# Altium footprint library HGH.PcbLib: 336 footprints (part 3 of 21)
Each footprint in its own frame and in the unit in brackets; x right, y up, seen from the top. Pads: shape width x height; smd on the part's side, far side on the other; paste and mask are expansions set on the pad; w line width, h text height; cw(c..) or ccw(c..) is an arc to the next point about the centre after c.
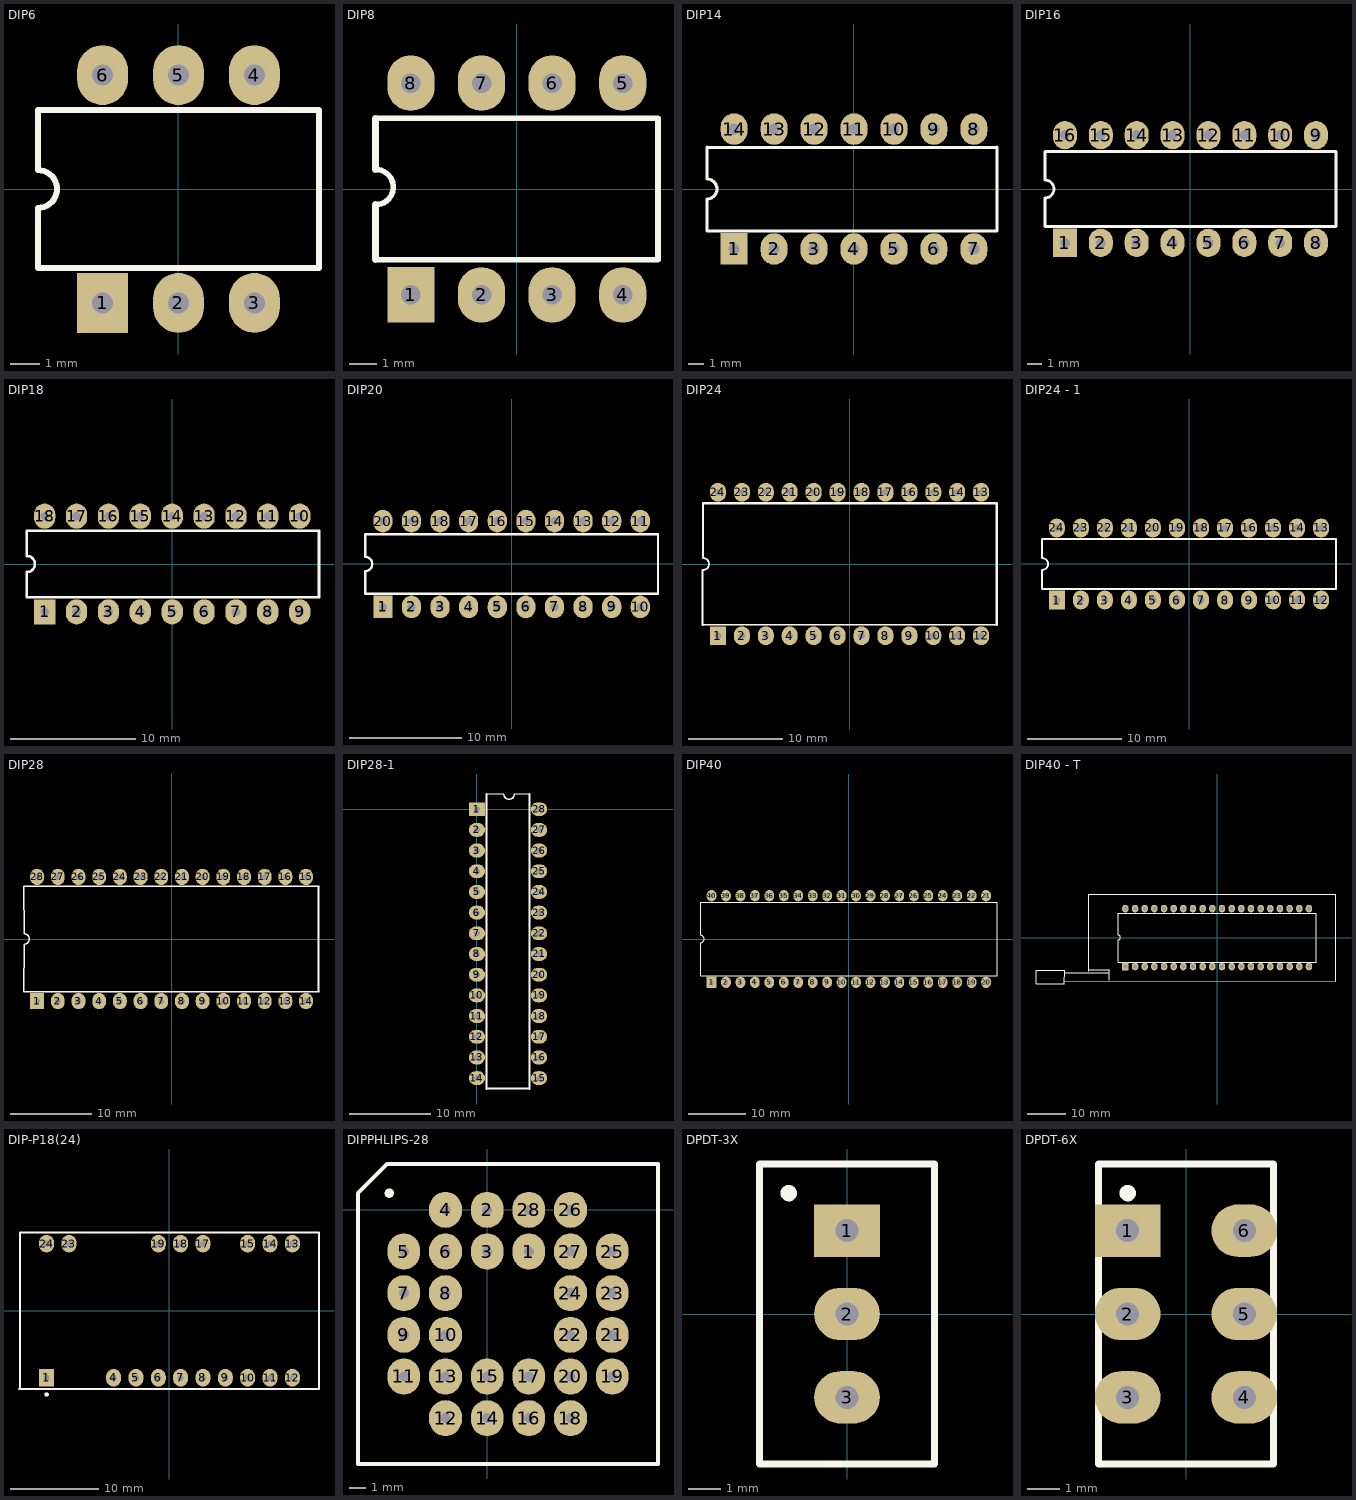
[diagram p2: the footprints below, top view; thin cyan lines are the x and y axes]

## DIP6 [mm]
pads (6):
  rect 1.7x2 hole 0.7: 1(-2.54,-3.81)
  oval 1.7x2 hole 0.7: 2(0,-3.81) 3(2.54,-3.81) 4(2.54,3.81) 5(0,3.81) 6(-2.54,3.81)
Top Overlay:
  lines w0.2: -4.7,-2.65 -4.7,-0.635 ccw(c-4.7,0) -4.7,0.635 -4.7,2.65 4.7,2.65 4.7,-2.65 -4.7,-2.65

## DIP8 [mm]
pads (8):
  rect 1.7x2 hole 0.7: 1(-3.81,-3.81)
  oval 1.7x2 hole 0.7: 2(-1.27,-3.81) 3(1.27,-3.81) 4(3.81,-3.81) 5(3.81,3.81) 6(1.27,3.81) 7(-1.27,3.81) 8(-3.81,3.81)
Top Overlay:
  lines w0.2: -5.08,-2.54 5.08,-2.54 5.08,2.54 -5.08,2.54 ; -5.08,-0.565 ccw(c-5.08,0.07) -5.08,0.705
  lines w0.254: -5.08,-2.54 -5.08,-0.565 ; -5.08,0.705 -5.08,2.54

## DIP14 [mm]
pads (14):
  rect 1.7x2 hole 0.7: 1(-7.62,-3.81)
  oval 1.7x2 hole 0.7: 2(-5.08,-3.81) 3(-2.54,-3.81) 4(0,-3.81) 5(2.54,-3.81) 6(5.08,-3.81) 7(7.62,-3.81) 8(7.62,3.81) 9(5.08,3.81) 10(2.54,3.81) 11(0,3.81) 12(-2.54,3.81) 13(-5.08,3.81) 14(-7.62,3.81)
Top Overlay:
  lines w0.2: -9.338,-2.65 -9.338,-0.635 ccw(c-9.338,0) -9.338,0.635 -9.338,2.65 ; -9.322,-2.667 9.084,-2.65 9.084,2.65 -9.322,2.642

## DIP16 [mm]
pads (16):
  rect 1.7x2 hole 0.7: 1(-8.89,-3.81)
  oval 1.7x2 hole 0.7: 2(-6.35,-3.81) 3(-3.81,-3.81) 4(-1.27,-3.81) 5(1.27,-3.81) 6(3.81,-3.81) 7(6.35,-3.81) 8(8.89,-3.81) 9(8.89,3.81) 10(6.35,3.81) 11(3.81,3.81) 12(1.27,3.81) 13(-1.27,3.81) 14(-3.81,3.81) 15(-6.35,3.81) 16(-8.89,3.81)
Top Overlay:
  lines w0.2: -10.3,-2.65 10.3,-2.65 10.3,2.65 -10.3,2.65 -10.3,0.635 cw(c-10.3,0) -10.3,-0.635 -10.3,-2.65

## DIP18 [mm]
pads (18):
  rect 1.7x2 hole 0.7: 1(-10.16,-3.81)
  oval 1.7x2 hole 0.7: 2(-7.62,-3.81) 3(-5.08,-3.81) 4(-2.54,-3.81) 5(0,-3.81) 6(2.54,-3.81) 7(5.08,-3.81) 8(7.62,-3.81) 9(10.16,-3.81) 10(10.16,3.81) 11(7.62,3.81) 12(5.08,3.81) 13(2.54,3.81) 14(0,3.81) 15(-2.54,3.81) 16(-5.08,3.81) 17(-7.62,3.81) 18(-10.16,3.81)
Top Overlay:
  lines w0.2: -11.57,-2.65 -11.57,-0.635 ccw(c-11.57,0) -11.57,0.635 -11.57,2.65 11.697,2.65 11.697,-2.65 -11.57,-2.65

## DIP20 [mm]
pads (20):
  rect 1.7x2 hole 0.7: 1(-11.43,-3.81)
  oval 1.7x2 hole 0.7: 2(-8.89,-3.81) 3(-6.35,-3.81) 4(-3.81,-3.81) 5(-1.27,-3.81) 6(1.27,-3.81) 7(3.81,-3.81) 8(6.35,-3.81) 9(8.89,-3.81) 10(11.43,-3.81) 11(11.43,3.81) 12(8.89,3.81) 13(6.35,3.81) 14(3.81,3.81) 15(1.27,3.81) 16(-1.27,3.81) 17(-3.81,3.81) 18(-6.35,3.81) 19(-8.89,3.81) 20(-11.43,3.81)
Top Overlay:
  lines w0.2: -13,-2.65 -13,-0.635 ccw(c-13,0) -13,0.635 -13,2.65 13,2.65 13,-2.65 -13,-2.65

## DIP24 [mm]
pads (24):
  rect 1.7x2 hole 0.7: 1(-13.97,-7.62)
  oval 1.7x2 hole 0.7: 2(-11.43,-7.62) 3(-8.89,-7.62) 4(-6.35,-7.62) 5(-3.81,-7.62) 6(-1.27,-7.62) 7(1.27,-7.62) 8(3.81,-7.62) 9(6.35,-7.62) 10(8.89,-7.62) 11(11.43,-7.62) 12(13.97,-7.62) 13(13.97,7.62) 14(11.43,7.62) 15(8.89,7.62) 16(6.35,7.62) 17(3.81,7.62) 18(1.27,7.62) 19(-1.27,7.62) 20(-3.81,7.62) 21(-6.35,7.62) 22(-8.89,7.62) 23(-11.43,7.62) 24(-13.97,7.62)
Top Overlay:
  lines w0.2: -15.621,-6.477 -15.621,-0.635 ; -15.56,-6.46 15.621,-6.452 ; -15.56,-0.635 ccw(c-15.56,0) -15.56,0.635
  lines w0.254: -15.56,0.635 -15.56,6.46 15.655,6.46 15.621,6.426 15.621,-6.452

## DIP24 - 1 [mm]
pads (24):
  rect 1.7x2 hole 0.7: 1(-13.97,-3.81)
  oval 1.7x2 hole 0.7: 2(-11.43,-3.81) 3(-8.89,-3.81) 4(-6.35,-3.81) 5(-3.81,-3.81) 6(-1.27,-3.81) 7(1.27,-3.81) 8(3.81,-3.81) 9(6.35,-3.81) 10(8.89,-3.81) 11(11.43,-3.81) 12(13.97,-3.81) 13(13.97,3.81) 14(11.43,3.81) 15(8.89,3.81) 16(6.35,3.81) 17(3.81,3.81) 18(1.27,3.81) 19(-1.27,3.81) 20(-3.81,3.81) 21(-6.35,3.81) 22(-8.89,3.81) 23(-11.43,3.81) 24(-13.97,3.81)
Top Overlay:
  lines w0.2: -15.54,-2.65 -15.54,-0.635 ccw(c-15.54,0) -15.54,0.635 -15.54,2.65 15.54,2.65 15.54,-2.65 -15.54,-2.65

## DIP28 [mm]
pads (28):
  rect 1.7x2 hole 0.7: 1(-16.51,-7.62)
  oval 1.7x2 hole 0.7: 2(-13.97,-7.62) 3(-11.43,-7.62) 4(-8.89,-7.62) 5(-6.35,-7.62) 6(-3.81,-7.62) 7(-1.27,-7.62) 8(1.27,-7.62) 9(3.81,-7.62) 10(6.35,-7.62) 11(8.89,-7.62) 12(11.43,-7.62) 13(13.97,-7.62) 14(16.51,-7.62) 15(16.51,7.62) 16(13.97,7.62) 17(11.43,7.62) 18(8.89,7.62) 19(6.35,7.62) 20(3.81,7.62) 21(1.27,7.62) 22(-1.27,7.62) 23(-3.81,7.62) 24(-6.35,7.62) 25(-8.89,7.62) 26(-11.43,7.62) 27(-13.97,7.62) 28(-16.51,7.62)
Top Overlay:
  lines w0.2: -18.161,-6.477 -18.1,-0.635 ccw(c-18.1,0) -18.1,0.635 -18.161,6.477 ; -18.1,-6.46 18.1,-6.46 ; -18.1,6.46 18.1,6.46 ; 18.034,-6.35 18.034,6.35

## DIP28-1 [mm]
pads (28):
  rect 2x1.7 hole 0.7: 1(0,0)
  oval 2x1.7 hole 0.7: 2(0,-2.54) 3(0,-5.08) 4(0,-7.62) 5(0,-10.16) 6(0,-12.7) 7(0,-15.24) 8(0,-17.78) 9(0,-20.32) 10(0,-22.86) 11(0,-25.4) 12(0,-27.94) 13(0,-30.48) 14(0,-33.02) 15(7.62,-33.02) 16(7.62,-30.48) 17(7.62,-27.94) 18(7.62,-25.4) 19(7.62,-22.86) 20(7.62,-20.32) 21(7.62,-17.78) 22(7.62,-15.24) 23(7.62,-12.7) 24(7.62,-10.16) 25(7.62,-7.62) 26(7.62,-5.08) 27(7.62,-2.54) 28(7.62,0)
Top Overlay:
  lines w0.2: 1.168,-34.356 1.168,1.844 ; 1.168,-34.29 6.452,-34.29 ; 1.168,1.905 3.302,1.844 ccw(c3.937,1.844) 4.572,1.844 6.452,1.905 ; 6.452,-34.356 6.452,1.844

## DIP40 [mm]
pads (40):
  rect 1.7x2 hole 0.7: 1(-24.13,-7.62)
  oval 1.7x2 hole 0.7: 2(-21.59,-7.62) 3(-19.05,-7.62) 4(-16.51,-7.62) 5(-13.97,-7.62) 6(-11.43,-7.62) 7(-8.89,-7.62) 8(-6.35,-7.62) 9(-3.81,-7.62) 10(-1.27,-7.62) 11(1.27,-7.62) 12(3.81,-7.62) 13(6.35,-7.62) 14(8.89,-7.62) 15(11.43,-7.62) 16(13.97,-7.62) 17(16.51,-7.62) 18(19.05,-7.62) 19(21.59,-7.62) 20(24.13,-7.62) 21(24.13,7.62) 22(21.59,7.62) 23(19.05,7.62) 24(16.51,7.62) 25(13.97,7.62) 26(11.43,7.62) 27(8.89,7.62) 28(6.35,7.62) 29(3.81,7.62) 30(1.27,7.62) 31(-1.27,7.62) 32(-3.81,7.62) 33(-6.35,7.62) 34(-8.89,7.62) 35(-11.43,7.62) 36(-13.97,7.62) 37(-16.51,7.62) 38(-19.05,7.62) 39(-21.59,7.62) 40(-24.13,7.62)
Top Overlay:
  lines w0.2: -26.05,-6.45 26.05,-6.45 26.05,6.45 -26.05,6.45 -26.05,0.635 cw(c-26.05,0) -26.05,-0.635 -26.05,-6.45

## DIP40 - T [mm]
pads (40):
  rect 1.7x2 hole 1: 1(-24.13,-7.62)
  oval 1.7x2 hole 1: 2(-21.59,-7.62) 3(-19.05,-7.62) 4(-16.51,-7.62) 5(-13.97,-7.62) 6(-11.43,-7.62) 7(-8.89,-7.62) 8(-6.35,-7.62) 9(-3.81,-7.62) 10(-1.27,-7.62) 11(1.27,-7.62) 12(3.81,-7.62) 13(6.35,-7.62) 14(8.89,-7.62) 15(11.43,-7.62) 16(13.97,-7.62) 17(16.51,-7.62) 18(19.05,-7.62) 19(21.59,-7.62) 20(24.13,-7.62) 21(24.13,7.62) 22(21.59,7.62) 23(19.05,7.62) 24(16.51,7.62) 25(13.97,7.62) 26(11.43,7.62) 27(8.89,7.62) 28(6.35,7.62) 29(3.81,7.62) 30(1.27,7.62) 31(-1.27,7.62) 32(-3.81,7.62) 33(-6.35,7.62) 34(-8.89,7.62) 35(-11.43,7.62) 36(-13.97,7.62) 37(-16.51,7.62) 38(-19.05,7.62) 39(-21.59,7.62) 40(-24.13,7.62)
Top Overlay:
  lines w0.2: -26.05,-6.45 26.05,-6.45 26.05,6.45 -26.05,6.45 -26.05,0.635 cw(c-26.05,0) -26.05,-0.635 -26.05,-6.45
  lines w0.254: -40.259,-11.303 31.242,-11.43 31.242,11.43 -33.782,11.43 -33.782,-8.89 ; -40.259,-9.271 -28.448,-9.271 ; -33.782,-8.509 -28.448,-8.509 -28.321,-8.636 -28.321,-11.176 ; -47.625,-12.192 -40.259,-12.192 -40.132,-8.636 -47.625,-8.636 -47.625,-12.192

## DIP-P18(24) [mm]
pads (18):
  rect 1.7x2 hole 0.7: 1(-13.97,-7.62)
  oval 1.7x2 hole 0.7: 4(-6.35,-7.62) 5(-3.81,-7.62) 6(-1.27,-7.62) 7(1.27,-7.62) 8(3.81,-7.62) 9(6.35,-7.62) 10(8.89,-7.62) 11(11.43,-7.62) 12(13.97,-7.62) 13(13.97,7.62) 14(11.43,7.62) 15(8.89,7.62) 17(3.81,7.62) 18(1.27,7.62) 19(-1.27,7.62) 23(-11.43,7.62) 24(-13.97,7.62)
Top Overlay:
  circle w0.25: c-13.968,-9.525 r0.125
  lines w0.25: -17.109,-8.89 16.891,-8.89 ; -17,-8.9 -17,-0.635 -17,8.9 17,8.9 17,-8.9

## DIPPHLIPS-28 [mm]
pads (28):
  oval 2x2.2 hole 0.6: 1(2.54,-2.54) 2(0,0) 3(0,-2.54) 4(-2.54,0) 5(-5.08,-2.54) 6(-2.54,-2.54) 7(-5.08,-5.08) 8(-2.54,-5.08) 9(-5.08,-7.62) 10(-2.54,-7.62) 11(-5.08,-10.16) 12(-2.54,-12.7) 13(-2.54,-10.16) 14(0,-12.7) 15(0,-10.16) 16(2.54,-12.7) 17(2.54,-10.16) 18(5.08,-12.7) 19(7.62,-10.16) 20(5.08,-10.16) 21(7.62,-7.62) 22(5.08,-7.62) 23(7.62,-5.08) 24(5.08,-5.08) 25(7.62,-2.54) 26(5.08,0) 27(5.08,-2.54) 28(2.54,0)
Top Overlay:
  circle w0.275: c-5.967,1.016 r0.15
  lines w0.254: -7.874,-15.494 -7.874,1.016 -6.096,2.794 10.414,2.794 10.414,-15.494 -7.874,-15.494

## DPDT-3X [mm]
pads (3):
  rect 2x1.6 hole 0.7: 1(0,2.54)
  oval 2x1.6 hole 0.7: 2(0,0) 3(0,-2.54)
Top Overlay:
  circle w0.25: c-1.776,3.683 r0.125
  lines w0.2: -2.667,-4.572 2.667,-4.572 2.667,4.572 -2.667,4.572 -2.667,-4.572

## DPDT-6X [mm]
pads (6):
  rect 2x1.6 hole 0.7: 1(-1.778,2.54)
  oval 2x1.6 hole 0.7: 2(-1.778,0) 3(-1.778,-2.54) 4(1.778,-2.54) 5(1.778,0) 6(1.778,2.54)
Top Overlay:
  circle w0.25: c-1.776,3.683 r0.125
  lines w0.2: -2.667,-4.572 2.667,-4.572 2.667,4.572 -2.667,4.572 -2.667,-4.572